# Altium schematic symbol library MCU_ST_STM32L4.SchLib: 130 symbols (part 5 of 5)
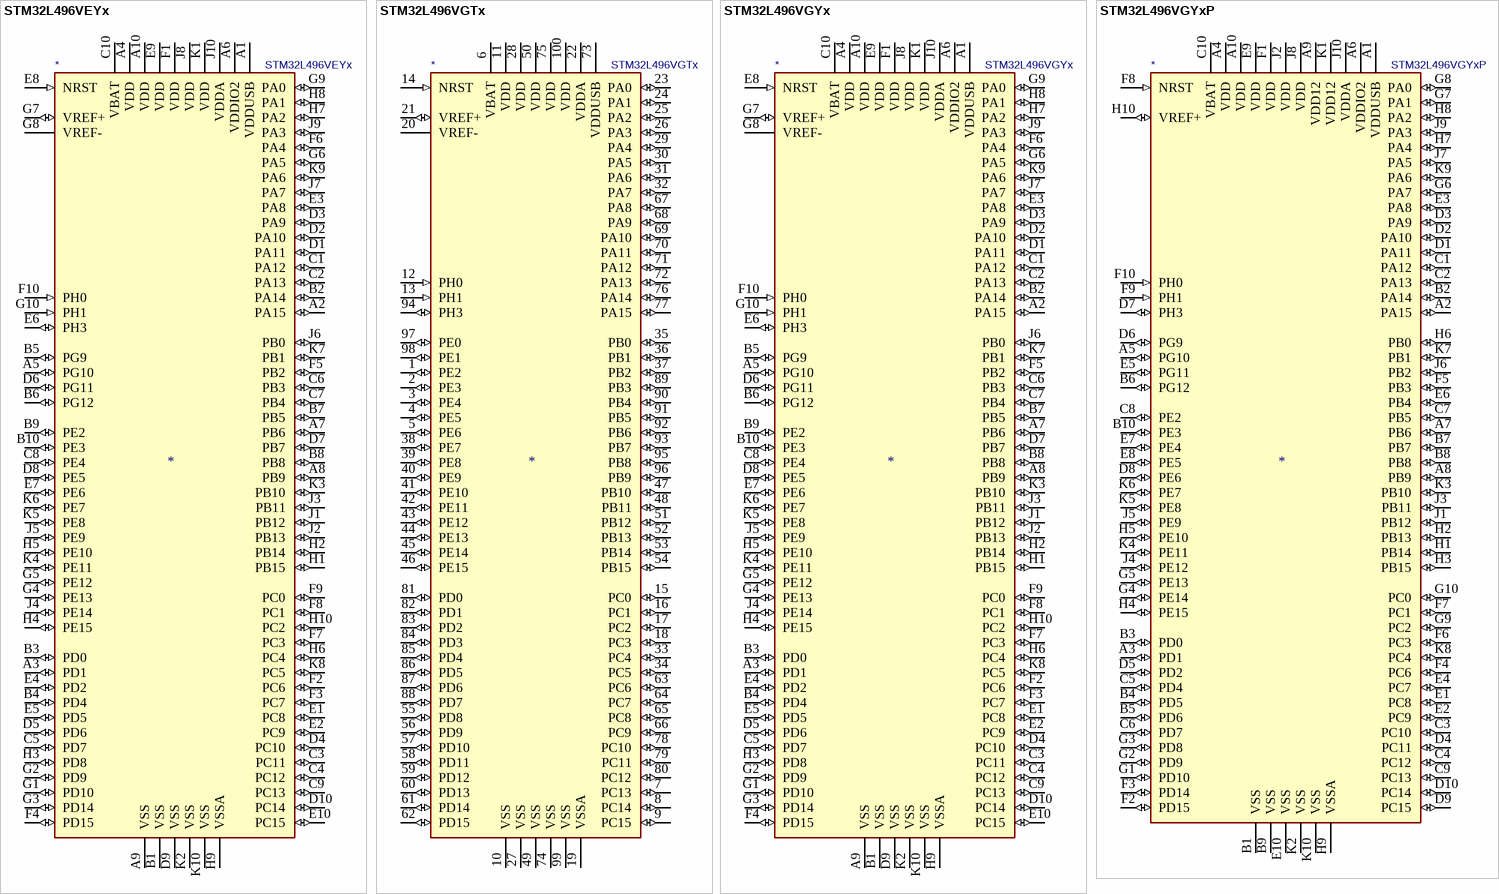
[diagram p23: symbols STM32L496VEYx to STM32L496VGYxP]

## STM32L496VGYx
designator *  value STM32L496VGYx
ki_keywords: ARM Cortex-M4 STM32L4 STM32L4x6; ki_description: ARM Cortex-M4 MCU, 1024KB flash, 320KB RAM, 80MHz, 1.71-3.6V, 81 GPIO, WLCSP-100; ki_fp_filters: ST_WLCSP*Die461*; Footprint: Package_CSP:ST_WLCSP-100_Die461; Supplier: http://www.st.com/st-web-ui/static/active/en/resource/technical/document/datasheet/DM00284211.pdf
footprint ST_WLCSP-100_Die461
pins: A1 VDDUSB (power), A2 PA15 (io), A3 PD1 (io), A4 VDD (power), A5 PG10 (io), A6 VDDIO2 (power), A7 PB6 (io), A8 PB9 (io), A9 VSS (power), A10 VDD (power), B1 VSS (power), B2 PA14 (io), B3 PD0 (io), B4 PD4 (io), B5 PG9 (io), B6 PG12 (io), B7 PB5 (io), B8 PB8 (io), B9 PE2 (io), B10 PE3 (io), C1 PA12 (io), C2 PA13 (io), C3 PC11 (io), C4 PC12 (io), C5 PD7 (io), C6 PB3 (io), C7 PB4 (io), C8 PE4 (io), C9 PC13 (io), C10 VBAT (power), D1 PA11 (io), D2 PA10 (io), D3 PA9 (io), D4 PC10 (io), D5 PD6 (io), D6 PG11 (io), D7 PB7 (io), D8 PE5 (io), D9 VSS (power), D10 PC14 (io), E1 PC8 (io), E2 PC9 (io), E3 PA8 (io), E4 PD2 (io), E5 PD5 (io), E6 PH3 (io), E7 PE6 (io), E8 NRST (in), E9 VDD (power), E10 PC15 (io), F1 VDD (power), F2 PC6 (io), F3 PC7 (io), F4 PD15 (io), F5 PB2 (io), F6 PA4 (io), F7 PC3 (io), F8 PC1 (io), F9 PC0 (io), F10 PH0 (in), G1 PD10 (io), G2 PD9 (io), G3 PD14 (io), G4 PE13 (io), G5 PE12 (io), G6 PA5 (io), G7 VREF+ (io), G8 VREF- (power), G9 PA0 (io), G10 PH1 (in), H1 PB15 (io), H2 PB14 (io), H3 PD8 (io), H4 PE15 (io), H5 PE10 (io), H6 PC4 (io), H7 PA2 (io), H8 PA1 (io), H9 VSSA (power), H10 PC2 (io), J1 PB12 (io), J2 PB13 (io), J3 PB11 (io), J4 PE14 (io), J5 PE9 (io), J6 PB0 (io), J7 PA7 (io), J8 VDD (power), J9 PA3 (io), J10 VDDA (power), K1 VDD (power), K2 VSS (power), K3 PB10 (io), K4 PE11 (io), K5 PE8 (io), K6 PE7 (io), K7 PB1 (io), K8 PC5 (io), K9 PA6 (io), K10 VSS (power)

## STM32L496VGYxP
designator *  value STM32L496VGYxP
ki_keywords: ARM Cortex-M4 STM32L4 STM32L4x6; ki_description: ARM Cortex-M4 MCU, 1024KB flash, 320KB RAM, 80MHz, 1.71-3.6V, 80 GPIO, WLCSP-100; ki_fp_filters: ST_WLCSP*Die461*; Footprint: Package_CSP:ST_WLCSP-100_Die461; Supplier: http://www.st.com/st-web-ui/static/active/en/resource/technical/document/datasheet/DM00284211.pdf
footprint ST_WLCSP-100_Die461
pins: A1 VDDUSB (power), A2 PA15 (io), A3 PD1 (io), A4 VDD (power), A5 PG10 (io), A6 VDDIO2 (power), A7 PB6 (io), A8 PB9 (io), A9 VDD12 (power), A10 VDD (power), B1 VSS (power), B2 PA14 (io), B3 PD0 (io), B4 PD5 (io), B5 PD6 (io), B6 PG12 (io), B7 PB7 (io), B8 PB8 (io), B9 VSS (power), B10 PE3 (io), C1 PA12 (io), C2 PA13 (io), C3 PC10 (io), C4 PC12 (io), C5 PD4 (io), C6 PD7 (io), C7 PB5 (io), C8 PE2 (io), C9 PC13 (io), C10 VBAT (power), D1 PA11 (io), D2 PA10 (io), D3 PA9 (io), D4 PC11 (io), D5 PD2 (io), D6 PG9 (io), D7 PH3 (io), D8 PE6 (io), D9 PC15 (io), D10 PC14 (io), E1 PC8 (io), E2 PC9 (io), E3 PA8 (io), E4 PC7 (io), E5 PG11 (io), E6 PB4 (io), E7 PE4 (io), E8 PE5 (io), E9 VDD (power), E10 VSS (power), F1 VDD (power), F2 PD15 (io), F3 PD14 (io), F4 PC6 (io), F5 PB3 (io), F6 PC3 (io), F7 PC1 (io), F8 NRST (in), F9 PH1 (in), F10 PH0 (in), G1 PD10 (io), G2 PD9 (io), G3 PD8 (io), G4 PE14 (io), G5 PE13 (io), G6 PA7 (io), G7 PA1 (io), G8 PA0 (io), G9 PC2 (io), G10 PC0 (io), H1 PB14 (io), H2 PB13 (io), H3 PB15 (io), H4 PE15 (io), H5 PE10 (io), H6 PB0 (io), H7 PA4 (io), H8 PA2 (io), H9 VSSA (power), H10 VREF+ (io), J1 PB12 (io), J2 VDD (power), J3 PB11 (io), J4 PE12 (io), J5 PE9 (io), J6 PB2 (io), J7 PA5 (io), J8 VDD (power), J9 PA3 (io), J10 VDDA (power), K1 VDD12 (power), K2 VSS (power), K3 PB10 (io), K4 PE11 (io), K5 PE8 (io), K6 PE7 (io), K7 PB1 (io), K8 PC4 (io), K9 PA6 (io), K10 VSS (power)

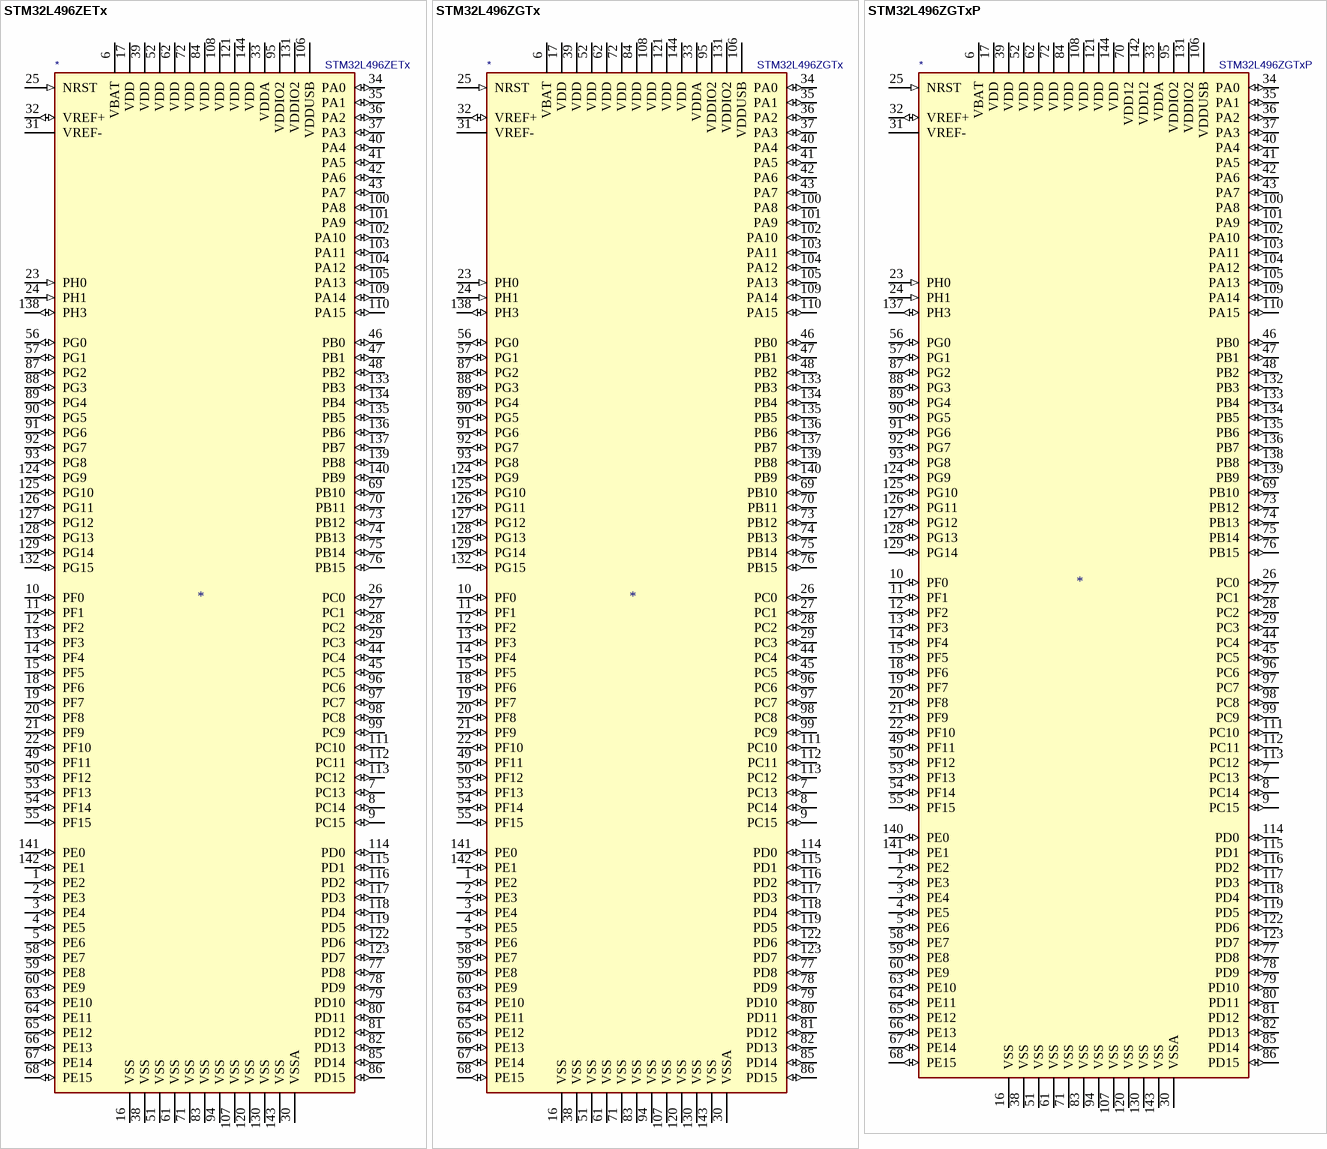
[diagram p19: symbols STM32L496ZETx to STM32L496ZGTxP]

## STM32L496ZETx
designator *  value STM32L496ZETx
ki_keywords: ARM Cortex-M4 STM32L4 STM32L4x6; ki_description: ARM Cortex-M4 MCU, 512KB flash, 320KB RAM, 80MHz, 1.71-3.6V, 115 GPIO, LQFP-144; ki_fp_filters: LQFP*20x20mm*P0.5mm*; Footprint: Package_QFP:LQFP-144_20x20mm_P0.5mm; Supplier: http://www.st.com/st-web-ui/static/active/en/resource/technical/document/datasheet/DM00284211.pdf
footprint LQFP-144_20x20mm_P0.5mm
pins: 1 PE2 (io), 2 PE3 (io), 3 PE4 (io), 4 PE5 (io), 5 PE6 (io), 6 VBAT (power), 7 PC13 (io), 8 PC14 (io), 9 PC15 (io), 10 PF0 (io), 11 PF1 (io), 12 PF2 (io), 13 PF3 (io), 14 PF4 (io), 15 PF5 (io), 16 VSS (power), 17 VDD (power), 18 PF6 (io), 19 PF7 (io), 20 PF8 (io), 21 PF9 (io), 22 PF10 (io), 23 PH0 (in), 24 PH1 (in), 25 NRST (in), 26 PC0 (io), 27 PC1 (io), 28 PC2 (io), 29 PC3 (io), 30 VSSA (power), 31 VREF- (power), 32 VREF+ (io), 33 VDDA (power), 34 PA0 (io), 35 PA1 (io), 36 PA2 (io), 37 PA3 (io), 38 VSS (power), 39 VDD (power), 40 PA4 (io), 41 PA5 (io), 42 PA6 (io), 43 PA7 (io), 44 PC4 (io), 45 PC5 (io), 46 PB0 (io), 47 PB1 (io), 48 PB2 (io), 49 PF11 (io), 50 PF12 (io), 51 VSS (power), 52 VDD (power), 53 PF13 (io), 54 PF14 (io), 55 PF15 (io), 56 PG0 (io), 57 PG1 (io), 58 PE7 (io), 59 PE8 (io), 60 PE9 (io), 61 VSS (power), 62 VDD (power), 63 PE10 (io), 64 PE11 (io), 65 PE12 (io), 66 PE13 (io), 67 PE14 (io), 68 PE15 (io), 69 PB10 (io), 70 PB11 (io), 71 VSS (power), 72 VDD (power), 73 PB12 (io), 74 PB13 (io), 75 PB14 (io), 76 PB15 (io), 77 PD8 (io), 78 PD9 (io), 79 PD10 (io), 80 PD11 (io), 81 PD12 (io), 82 PD13 (io), 83 VSS (power), 84 VDD (power), 85 PD14 (io), 86 PD15 (io), 87 PG2 (io), 88 PG3 (io), 89 PG4 (io), 90 PG5 (io), 91 PG6 (io), 92 PG7 (io), 93 PG8 (io), 94 VSS (power), 95 VDDIO2 (power), 96 PC6 (io), 97 PC7 (io), 98 PC8 (io), 99 PC9 (io), 100 PA8 (io), 101 PA9 (io), 102 PA10 (io), 103 PA11 (io), 104 PA12 (io), 105 PA13 (io), 106 VDDUSB (power), 107 VSS (power), 108 VDD (power), 109 PA14 (io), 110 PA15 (io), 111 PC10 (io), 112 PC11 (io), 113 PC12 (io), 114 PD0 (io), 115 PD1 (io), 116 PD2 (io), 117 PD3 (io), 118 PD4 (io), 119 PD5 (io), 120 VSS (power), 121 VDD (power), 122 PD6 (io), 123 PD7 (io), 124 PG9 (io), 125 PG10 (io), 126 PG11 (io), 127 PG12 (io), 128 PG13 (io), 129 PG14 (io), 130 VSS (power), 131 VDDIO2 (power), 132 PG15 (io), 133 PB3 (io), 134 PB4 (io), 135 PB5 (io), 136 PB6 (io), 137 PB7 (io), 138 PH3 (io), 139 PB8 (io), 140 PB9 (io), 141 PE0 (io), 142 PE1 (io), 143 VSS (power), 144 VDD (power)

## STM32L496ZGTx
designator *  value STM32L496ZGTx
ki_keywords: ARM Cortex-M4 STM32L4 STM32L4x6; ki_description: ARM Cortex-M4 MCU, 1024KB flash, 320KB RAM, 80MHz, 1.71-3.6V, 115 GPIO, LQFP-144; ki_fp_filters: LQFP*20x20mm*P0.5mm*; Footprint: Package_QFP:LQFP-144_20x20mm_P0.5mm; Supplier: http://www.st.com/st-web-ui/static/active/en/resource/technical/document/datasheet/DM00284211.pdf
footprint LQFP-144_20x20mm_P0.5mm
pins: 1 PE2 (io), 2 PE3 (io), 3 PE4 (io), 4 PE5 (io), 5 PE6 (io), 6 VBAT (power), 7 PC13 (io), 8 PC14 (io), 9 PC15 (io), 10 PF0 (io), 11 PF1 (io), 12 PF2 (io), 13 PF3 (io), 14 PF4 (io), 15 PF5 (io), 16 VSS (power), 17 VDD (power), 18 PF6 (io), 19 PF7 (io), 20 PF8 (io), 21 PF9 (io), 22 PF10 (io), 23 PH0 (in), 24 PH1 (in), 25 NRST (in), 26 PC0 (io), 27 PC1 (io), 28 PC2 (io), 29 PC3 (io), 30 VSSA (power), 31 VREF- (power), 32 VREF+ (io), 33 VDDA (power), 34 PA0 (io), 35 PA1 (io), 36 PA2 (io), 37 PA3 (io), 38 VSS (power), 39 VDD (power), 40 PA4 (io), 41 PA5 (io), 42 PA6 (io), 43 PA7 (io), 44 PC4 (io), 45 PC5 (io), 46 PB0 (io), 47 PB1 (io), 48 PB2 (io), 49 PF11 (io), 50 PF12 (io), 51 VSS (power), 52 VDD (power), 53 PF13 (io), 54 PF14 (io), 55 PF15 (io), 56 PG0 (io), 57 PG1 (io), 58 PE7 (io), 59 PE8 (io), 60 PE9 (io), 61 VSS (power), 62 VDD (power), 63 PE10 (io), 64 PE11 (io), 65 PE12 (io), 66 PE13 (io), 67 PE14 (io), 68 PE15 (io), 69 PB10 (io), 70 PB11 (io), 71 VSS (power), 72 VDD (power), 73 PB12 (io), 74 PB13 (io), 75 PB14 (io), 76 PB15 (io), 77 PD8 (io), 78 PD9 (io), 79 PD10 (io), 80 PD11 (io), 81 PD12 (io), 82 PD13 (io), 83 VSS (power), 84 VDD (power), 85 PD14 (io), 86 PD15 (io), 87 PG2 (io), 88 PG3 (io), 89 PG4 (io), 90 PG5 (io), 91 PG6 (io), 92 PG7 (io), 93 PG8 (io), 94 VSS (power), 95 VDDIO2 (power), 96 PC6 (io), 97 PC7 (io), 98 PC8 (io), 99 PC9 (io), 100 PA8 (io), 101 PA9 (io), 102 PA10 (io), 103 PA11 (io), 104 PA12 (io), 105 PA13 (io), 106 VDDUSB (power), 107 VSS (power), 108 VDD (power), 109 PA14 (io), 110 PA15 (io), 111 PC10 (io), 112 PC11 (io), 113 PC12 (io), 114 PD0 (io), 115 PD1 (io), 116 PD2 (io), 117 PD3 (io), 118 PD4 (io), 119 PD5 (io), 120 VSS (power), 121 VDD (power), 122 PD6 (io), 123 PD7 (io), 124 PG9 (io), 125 PG10 (io), 126 PG11 (io), 127 PG12 (io), 128 PG13 (io), 129 PG14 (io), 130 VSS (power), 131 VDDIO2 (power), 132 PG15 (io), 133 PB3 (io), 134 PB4 (io), 135 PB5 (io), 136 PB6 (io), 137 PB7 (io), 138 PH3 (io), 139 PB8 (io), 140 PB9 (io), 141 PE0 (io), 142 PE1 (io), 143 VSS (power), 144 VDD (power)

## STM32L496ZGTxP
designator *  value STM32L496ZGTxP
ki_keywords: ARM Cortex-M4 STM32L4 STM32L4x6; ki_description: ARM Cortex-M4 MCU, 1024KB flash, 320KB RAM, 80MHz, 1.71-3.6V, 113 GPIO, LQFP-144; ki_fp_filters: LQFP*20x20mm*P0.5mm*; Footprint: Package_QFP:LQFP-144_20x20mm_P0.5mm; Supplier: http://www.st.com/st-web-ui/static/active/en/resource/technical/document/datasheet/DM00284211.pdf
footprint LQFP-144_20x20mm_P0.5mm
pins: 1 PE2 (io), 2 PE3 (io), 3 PE4 (io), 4 PE5 (io), 5 PE6 (io), 6 VBAT (power), 7 PC13 (io), 8 PC14 (io), 9 PC15 (io), 10 PF0 (io), 11 PF1 (io), 12 PF2 (io), 13 PF3 (io), 14 PF4 (io), 15 PF5 (io), 16 VSS (power), 17 VDD (power), 18 PF6 (io), 19 PF7 (io), 20 PF8 (io), 21 PF9 (io), 22 PF10 (io), 23 PH0 (in), 24 PH1 (in), 25 NRST (in), 26 PC0 (io), 27 PC1 (io), 28 PC2 (io), 29 PC3 (io), 30 VSSA (power), 31 VREF- (power), 32 VREF+ (io), 33 VDDA (power), 34 PA0 (io), 35 PA1 (io), 36 PA2 (io), 37 PA3 (io), 38 VSS (power), 39 VDD (power), 40 PA4 (io), 41 PA5 (io), 42 PA6 (io), 43 PA7 (io), 44 PC4 (io), 45 PC5 (io), 46 PB0 (io), 47 PB1 (io), 48 PB2 (io), 49 PF11 (io), 50 PF12 (io), 51 VSS (power), 52 VDD (power), 53 PF13 (io), 54 PF14 (io), 55 PF15 (io), 56 PG0 (io), 57 PG1 (io), 58 PE7 (io), 59 PE8 (io), 60 PE9 (io), 61 VSS (power), 62 VDD (power), 63 PE10 (io), 64 PE11 (io), 65 PE12 (io), 66 PE13 (io), 67 PE14 (io), 68 PE15 (io), 69 PB10 (io), 70 VDD12 (power), 71 VSS (power), 72 VDD (power), 73 PB12 (io), 74 PB13 (io), 75 PB14 (io), 76 PB15 (io), 77 PD8 (io), 78 PD9 (io), 79 PD10 (io), 80 PD11 (io), 81 PD12 (io), 82 PD13 (io), 83 VSS (power), 84 VDD (power), 85 PD14 (io), 86 PD15 (io), 87 PG2 (io), 88 PG3 (io), 89 PG4 (io), 90 PG5 (io), 91 PG6 (io), 92 PG7 (io), 93 PG8 (io), 94 VSS (power), 95 VDDIO2 (power), 96 PC6 (io), 97 PC7 (io), 98 PC8 (io), 99 PC9 (io), 100 PA8 (io), 101 PA9 (io), 102 PA10 (io), 103 PA11 (io), 104 PA12 (io), 105 PA13 (io), 106 VDDUSB (power), 107 VSS (power), 108 VDD (power), 109 PA14 (io), 110 PA15 (io), 111 PC10 (io), 112 PC11 (io), 113 PC12 (io), 114 PD0 (io), 115 PD1 (io), 116 PD2 (io), 117 PD3 (io), 118 PD4 (io), 119 PD5 (io), 120 VSS (power), 121 VDD (power), 122 PD6 (io), 123 PD7 (io), 124 PG9 (io), 125 PG10 (io), 126 PG11 (io), 127 PG12 (io), 128 PG13 (io), 129 PG14 (io), 130 VSS (power), 131 VDDIO2 (power), 132 PB3 (io), 133 PB4 (io), 134 PB5 (io), 135 PB6 (io), 136 PB7 (io), 137 PH3 (io), 138 PB8 (io), 139 PB9 (io), 140 PE0 (io), 141 PE1 (io), 142 VDD12 (power), 143 VSS (power), 144 VDD (power)